# Altium integrated library realtek_phy.IntLib: 2 symbols
Pins are listed as number, name and electrical type; pins without a type are passive.

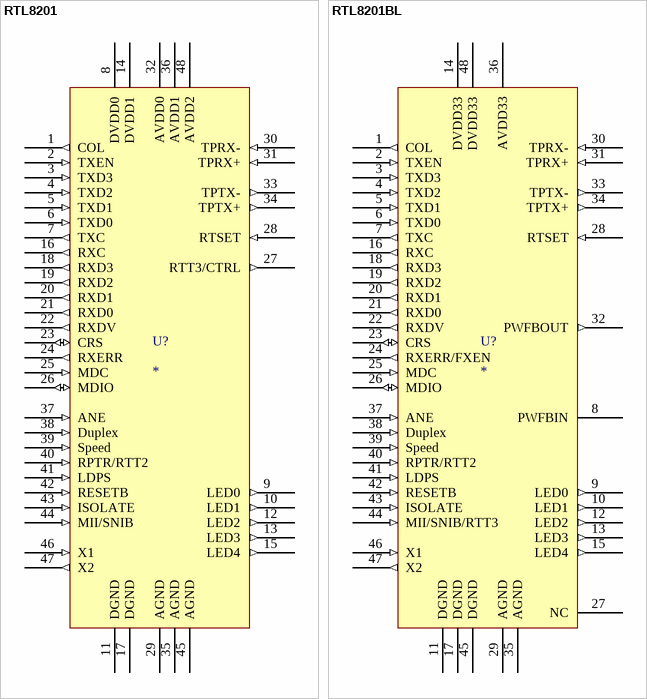
[diagram p0: symbols RTL8201 to RTL8201BL]

## RTL8201
designator U?
MII PHY
footprint F-QFP7x7-G48/X.3N (QFP; 48 Leads; Body 7 x 7 mm; Pitch 0.5 mm)
pins: 1 COL (out), 2 TXEN (in), 3 TXD3 (in), 4 TXD2 (in), 5 TXD1 (in), 6 TXD0 (in), 7 TXC (out), 8 DVDD0 (power), 9 LED0 (out), 10 LED1 (out), 11 DGND (power), 12 LED2 (out), 13 LED3 (out), 14 DVDD1 (power), 15 LED4 (out), 16 RXC (out), 17 DGND (power), 18 RXD3 (out), 19 RXD2 (out), 20 RXD1 (out), 21 RXD0 (out), 22 RXDV (out), 23 CRS (io), 24 RXERR (out), 25 MDC (in), 26 MDIO (io), 27 RTT3/CTRL (out), 28 RTSET (in), 29 AGND (power), 30 TPRX- (in), 31 TPRX+ (in), 32 AVDD0 (power), 33 TPTX- (out), 34 TPTX+ (out), 35 AGND (power), 36 AVDD1 (power), 37 ANE (in), 38 Duplex (in), 39 Speed (in), 40 RPTR/RTT2 (in), 41 LDPS (in), 42 RESETB (in), 43 ISOLATE (in), 44 MII/SNIB (in), 45 AGND (power), 46 X1 (in), 47 X2 (out), 48 AVDD2 (power)

## RTL8201BL
designator U?
MII PHY
footprint F-QFP7x7-G48/X.3N (QFP; 48 Leads; Body 7 x 7 mm; Pitch 0.5 mm)
pins: 1 COL (out), 2 TXEN (in), 3 TXD3 (in), 4 TXD2 (in), 5 TXD1 (in), 6 TXD0 (in), 7 TXC (out), 8 PWFBIN (power), 9 LED0 (out), 10 LED1 (out), 11 DGND (power), 12 LED2 (out), 13 LED3 (out), 14 DVDD33 (power), 15 LED4 (out), 16 RXC (out), 17 DGND (power), 18 RXD3 (out), 19 RXD2 (out), 20 RXD1 (out), 21 RXD0 (out), 22 RXDV (out), 23 CRS (io), 24 RXERR/FXEN (out), 25 MDC (in), 26 MDIO (io), 27 NC, 28 RTSET (in), 29 AGND (power), 30 TPRX- (in), 31 TPRX+ (in), 32 PWFBOUT (out), 33 TPTX- (out), 34 TPTX+ (out), 35 AGND (power), 36 AVDD33 (power), 37 ANE (in), 38 Duplex (in), 39 Speed (in), 40 RPTR/RTT2 (in), 41 LDPS (in), 42 RESETB (in), 43 ISOLATE (in), 44 MII/SNIB/RTT3 (in), 45 DGND (power), 46 X1 (in), 47 X2 (out), 48 DVDD33 (power)